# Altium schematic symbol library APSS Flight Parts.SchLib: 102 symbols
Pins are listed as number, name and electrical type; pins without a type are passive.

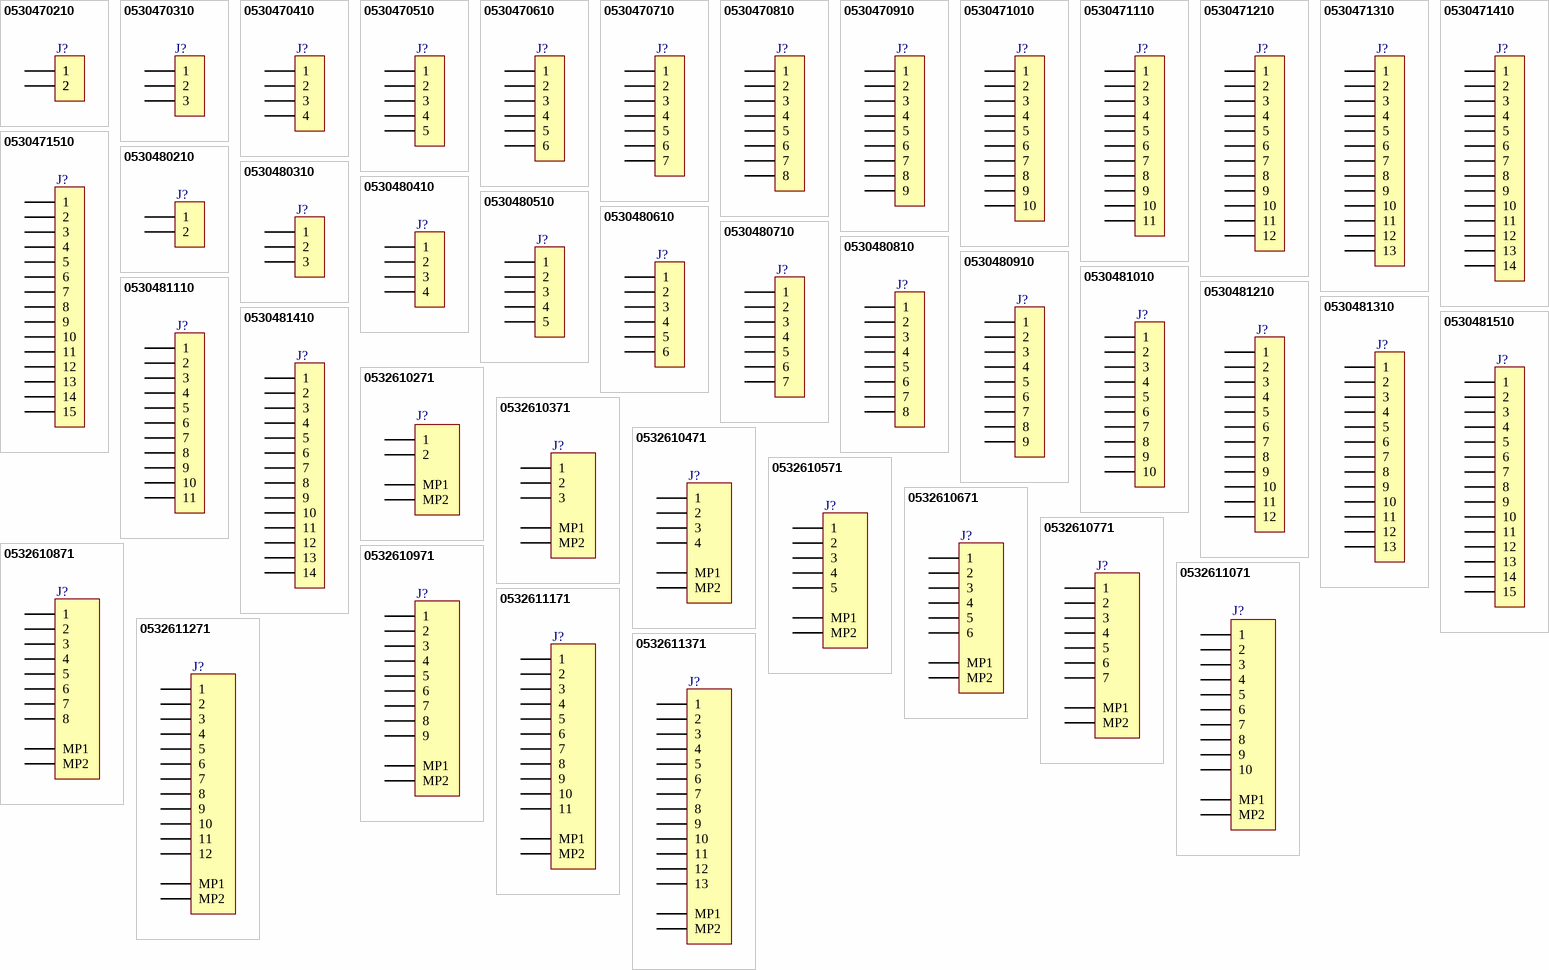
[diagram p0: symbols 0530470210 to 0532611371]

## 0530470210
designator J?  (value not drawn)
Header - Picoblade 02-pin, TH, STR; APSS Standard Part: APSS Standard; Pitch: 1.25mm; Mounting Type: Through-hole; Orientation: Straight; MF Part No.: 0530470210; Pins: 2; Supplier 1: Digikey; Supplier 1 Part No.: WM1731-ND
footprint MOLEX_0530470210
pins: 1, 1, 2, 2

## 0530470310
designator J?  (value not drawn)
Header - Picoblade 03-pin, TH, STR; APSS Standard Part: APSS Standard; Pitch: 1.25mm; Mounting Type: Through-hole; Orientation: Straight; MF Part No.: 0530470310; Pins: 3; Supplier 1: Digikey; Supplier 1 Part No.: WM1732-ND
footprint MOLEX_0530470310 (Header - Picoblade 03-pin, TH, STR, 4.2mm height)
pins: 1, 2, 3

## 0530470410
designator J?  (value not drawn)
Header - Picoblade 04-pin, TH, STR; APSS Standard Part: APSS Standard; Pitch: 1.25mm; Mounting Type: Through-hole; Orientation: Straight; MF Part No.: 0530470410; Pins: 4; Supplier 1: Digikey; Supplier 1 Part No.: WM1733-ND
footprint MOLEX_0530470410
pins: 1, 2, 3, 4

## 0530470510
designator J?  (value not drawn)
Header - Picoblade 05-pin, TH, STR; APSS Standard Part: APSS Standard; Pitch: 1.25mm; Mounting Type: Through-hole; Orientation: Straight; MF Part No.: 0530470510; Pins: 5; Supplier 1: Digikey; Supplier 1 Part No.: WM1734-ND
footprint MOLEX_0530470510 (Header - Picoblade 05-pin, TH, STR, 4.2mm height)
pins: 1, 2, 3, 4, 5

## 0530470610
designator J?  (value not drawn)
Header - Picoblade 06-pin, TH, STR; APSS Standard Part: APSS Standard; Pitch: 1.25mm; Mounting Type: Through-hole; Orientation: Straight; MF Part No.: 0530470610; Pins: 6; Supplier 1: Digikey; Supplier 1 Part No.: WM1735-ND
footprint MOLEX_0530470610
pins: 1, 2, 3, 4, 5, 6

## 0530470710
designator J?  (value not drawn)
Header - Picoblade 07-pin, TH, STR; APSS Standard Part: APSS Standard; Pitch: 1.25mm; Mounting Type: Through-hole; Orientation: Straight; MF Part No.: 0530470710; Pins: 7; Supplier 1: Digikey; Supplier 1 Part No.: WM1736-ND
footprint MOLEX_0530470710 (Header - Picoblade 07-pin, TH, STR, 4.2mm height)
pins: 1, 2, 3, 4, 5, 6, 7

## 0530470810
designator J?  (value not drawn)
Header - Picoblade 08-pin, TH, STR; APSS Standard Part: APSS Standard; Pitch: 1.25mm; Mounting Type: Through-hole; Orientation: Straight; MF Part No.: 0530470810; Pins: 8; Supplier 1: Digikey; Supplier 1 Part No.: WM1737-ND
footprint MOLEX_0530470810
pins: 1, 2, 3, 4, 5, 6, 7, 8

## 0530470910
designator J?  (value not drawn)
Header - Picoblade 09-pin, TH, STR; APSS Standard Part: APSS Standard; Pitch: 1.25mm; Mounting Type: Through-hole; Orientation: Straight; MF Part No.: 0530470910; Pins: 9; Supplier 1: Digikey; Supplier 1 Part No.: WM1738-ND
footprint MOLEX_0530470910 (Header - Picoblade 09-pin, TH, STR, 4.2mm height)
pins: 1, 2, 3, 4, 5, 6, 7, 8, 9

## 0530471010
designator J?  (value not drawn)
Header - Picoblade 10-pin, TH, STR; APSS Standard Part: APSS Standard; Pitch: 1.25mm; Mounting Type: Through-hole; Orientation: Straight; MF Part No.: 0530471010; Pins: 10; Supplier 1: Digikey; Supplier 1 Part No.: WM1739-ND
footprint MOLEX_0530471010
pins: 1, 2, 3, 4, 5, 6, 7, 8, 9, 10

## 0530471110
designator J?  (value not drawn)
Header - Picoblade 11-pin, TH, STR; APSS Standard Part: APSS Standard; Pitch: 1.25mm; Mounting Type: Through-hole; Orientation: Straight; MF Part No.: 0530471110; Pins: 11; Supplier 1: Digikey; Supplier 1 Part No.: WM1740-ND
footprint MOLEX_0530471110 (Header - Picoblade 11-pin, TH, STR, 4.2mm height)
pins: 1, 2, 3, 4, 5, 6, 7, 8, 9, 10, 11

## 0530471210
designator J?  (value not drawn)
Header - Picoblade 12-pin, TH, STR; APSS Standard Part: APSS Standard; Pitch: 1.25mm; Mounting Type: Through-hole; Orientation: Straight; MF Part No.: 0530471210; Pins: 12; Supplier 1: Digikey; Supplier 1 Part No.: WM1741-ND
footprint MOLEX_0530471210
pins: 1, 2, 3, 4, 5, 6, 7, 8, 9, 10, 11, 12

## 0530471310
designator J?  (value not drawn)
Header - Picoblade 13-pin, TH, STR; APSS Standard Part: APSS Standard; Pitch: 1.25mm; Mounting Type: Through-hole; Orientation: Straight; MF Part No.: 0530471310; Pins: 13; Supplier 1: Digikey; Supplier 1 Part No.: 23-0530471310-ND
footprint MOLEX_0530471310 (Header - Picoblade 13-pin, TH, STR, 4.2mm height)
pins: 1, 2, 3, 4, 5, 6, 7, 8, 9, 10, 11, 12, 13

## 0530471410
designator J?  (value not drawn)
Header - Picoblade 14-pin, TH, STR; APSS Standard Part: APSS Standard; Pitch: 1.25mm; Mounting Type: Through-hole; Orientation: Straight; MF Part No.: 0530471410; Pins: 14; Supplier 1: Digikey; Supplier 1 Part No.: WM17004-ND
footprint MOLEX_0530471410
pins: 1, 2, 3, 4, 5, 6, 7, 8, 9, 10, 11, 12, 13, 14

## 0530471510
designator J?  (value not drawn)
Header - Picoblade 15-pin, TH, STR; APSS Standard Part: APSS Standard; Pitch: 1.25mm; Mounting Type: Through-hole; Orientation: Straight; Supplier 1: Digikey; Supplier 1 Part No.: WM17005-ND; MF Part No.: 0530471510; Pins: 15
footprint MOLEX_0530471510 (Header - Picoblade 15-pin, TH, STR, 4.2mm height)
pins: 1, 2, 3, 4, 5, 6, 7, 8, 9, 10, 11, 12, 13, 14, 15

## 0530480210
designator J?  (value not drawn)
Header - Picoblade 02-pin, TH, RA; APSS Standard Part: APSS Standard; Pitch: 1.25mm; Mounting Type: Through-hole; Orientation: Right Angle; MF Part No.: 0530480210; Pins: 2; Supplier 1: Digikey; Supplier 1 Part No.: WM1742-ND
footprint MOLEX_0530480210
pins: 1, 2

## 0530480310
designator J?  (value not drawn)
Header - Picoblade 03-pin, TH, RA; APSS Standard Part: APSS Standard; Pitch: 1.25mm; Mounting Type: Through-hole; Orientation: Right Angle; MF Part No.: 0530480310; Pins: 3; Supplier 1: Digikey; Supplier 1 Part No.: WM1743-ND
footprint MOLEX_0530480310 (Header - Picoblade 03-pin, TH, RA, 4.2mm height)
pins: 1, 2, 3

## 0530480410
designator J?  (value not drawn)
Header - Picoblade 04-pin, TH, RA; APSS Standard Part: APSS Standard; Pitch: 1.25mm; Mounting Type: Through-hole; Orientation: Right Angle; MF Part No.: 0530480410; Pins: 4; Supplier 1: Digikey; Supplier 1 Part No.: WM1744-ND
footprint MOLEX_0530480410
pins: 1, 2, 3, 4

## 0530480510
designator J?  (value not drawn)
Header - Picoblade 05-pin, TH, RA; APSS Standard Part: APSS Standard; Pitch: 1.25mm; Mounting Type: Through-hole; Orientation: Right Angle; MF Part No.: 0530480510; Pins: 5; Supplier 1: Digikey; Supplier 1 Part No.: WM1745-ND
footprint MOLEX_0530480510 (Header - Picoblade 05-pin, TH, RA, 4.2mm height)
pins: 1, 2, 3, 4, 5

## 0530480610
designator J?  (value not drawn)
Header - Picoblade 06-pin, TH, RA; APSS Standard Part: APSS Standard; Pitch: 1.25mm; Mounting Type: Through-hole; Orientation: Right Angle; MF Part No.: 0530480610; Pins: 6; Supplier 1: Digikey; Supplier 1 Part No.: WM1746-ND
footprint MOLEX_0530480610
pins: 1, 2, 3, 4, 5, 6

## 0530480710
designator J?  (value not drawn)
Header - Picoblade 07-pin, TH, RA; APSS Standard Part: APSS Standard; Pitch: 1.25mm; Mounting Type: Through-hole; Orientation: Right Angle; MF Part No.: 0530480710; Pins: 7; Supplier 1: Digikey; Supplier 1 Part No.: WM1747-ND
footprint MOLEX_0530480710 (Header - Picoblade 07-pin, TH, RA, 4.2mm height)
pins: 1, 2, 3, 4, 5, 6, 7

## 0530480810
designator J?  (value not drawn)
Header - Picoblade 08-pin, TH, RA; APSS Standard Part: APSS Standard; Pitch: 1.25mm; Mounting Type: Through-hole; Orientation: Right Angle; MF Part No.: 0530480810; Pins: 8; Supplier 1: Digikey; Supplier 1 Part No.: WM1748-ND
footprint MOLEX_0530480810
pins: 1, 2, 3, 4, 5, 6, 7, 8

## 0530480910
designator J?  (value not drawn)
Header - Picoblade 09-pin, TH, RA; APSS Standard Part: APSS Standard; Pitch: 1.25mm; Mounting Type: Through-hole; Orientation: Right Angle; MF Part No.: 0530480910; Pins: 9; Supplier 1: Digikey; Supplier 1 Part No.: WM1749-ND
footprint MOLEX_0530480910 (Header - Picoblade 09-pin, TH, RA, 4.2mm height)
pins: 1, 2, 3, 4, 5, 6, 7, 8, 9

## 0530481010
designator J?  (value not drawn)
Header - Picoblade 10-pin, TH, RA; APSS Standard Part: APSS Standard; Pitch: 1.25mm; Mounting Type: Through-hole; Orientation: Right Angle; MF Part No.: 0530481010; Pins: 10; Supplier 1: Digikey; Supplier 1 Part No.: WM1750-ND
footprint MOLEX_0530481010
pins: 1, 2, 3, 4, 5, 6, 7, 8, 9, 10

## 0530481110
designator J?  (value not drawn)
Header - Picoblade 11-pin, TH, RA; APSS Standard Part: APSS Standard; Pitch: 1.25mm; Mounting Type: Through-hole; Orientation: Right Angle; MF Part No.: 0530481110; Pins: 11; Supplier 1: Digikey; Supplier 1 Part No.: WM1751-ND
footprint MOLEX_0530481110 (Header - Picoblade 11-pin, TH, RA, 4.2mm height)
pins: 1, 2, 3, 4, 5, 6, 7, 8, 9, 10, 11

## 0530481210
designator J?  (value not drawn)
Header - Picoblade 12-pin, TH, RA; APSS Standard Part: APSS Standard; Pitch: 1.25mm; Mounting Type: Through-hole; Orientation: Right Angle; MF Part No.: 0530481210; Pins: 12; Supplier 1: Digikey; Supplier 1 Part No.: WM1752-ND
footprint MOLEX_0530481210
pins: 1, 2, 3, 4, 5, 6, 7, 8, 9, 10, 11, 12

## 0530481310
designator J?  (value not drawn)
Header - Picoblade 13-pin, TH, RA; APSS Standard Part: APSS Standard; Pitch: 1.25mm; Mounting Type: Through-hole; Orientation: Right Angle; MF Part No.: 0530481310; Pins: 13; Supplier 1: Digikey; Supplier 1 Part No.: 23-0530481310-ND
footprint MOLEX_0530481310 (Header - Picoblade 13-pin, TH, RA, 4.2mm height)
pins: 1, 2, 3, 4, 5, 6, 7, 8, 9, 10, 11, 12, 13

## 0530481410
designator J?  (value not drawn)
Header - Picoblade 14-pin, TH, RA; APSS Standard Part: APSS Standard; Pitch: 1.25mm; Mounting Type: Through-hole; Orientation: Right Angle; MF Part No.: 0530481410; Pins: 14; Supplier 1: Digikey; Supplier 1 Part No.: WM17007-ND
footprint MOLEX_0530481410
pins: 1, 2, 3, 4, 5, 6, 7, 8, 9, 10, 11, 12, 13, 14

## 0530481510
designator J?  (value not drawn)
Header - Picoblade 15-pin, TH, RA; APSS Standard Part: APSS Standard; Pitch: 1.25mm; Mounting Type: Through-hole; Orientation: Right Angle; MF Part No.: 0530481510; Pins: 15; Supplier 1: Digikey; Supplier 1 Part No.: WM17008-ND
footprint MOLEX_0530481510 (Header - Picoblade 15-pin, TH, RA, 4.2mm height)
pins: 1, 2, 3, 4, 5, 6, 7, 8, 9, 10, 11, 12, 13, 14, 15

## 0532610271
designator J?  (value not drawn)
Header - Picoblade 02-pin, SMT, RA; APSS Standard Part: APSS Standard; Pitch: 1.25mm; Mounting Type: Surface Mount; Orientation: Right Angle; MF Part No.: 0532610271; Pins: 2; Supplier 1: Digikey; Supplier 1 Part No.: WM7620CT-ND
footprint MOLEX_0532610271 (Header - Picoblade 02-pin, SMT, RA, 3.4mm height)
pins: 1, 2, MP1, MP2

## 0532610371
designator J?  (value not drawn)
Header - Picoblade 03-pin, SMT, RA; APSS Standard Part: APSS Standard; Pitch: 1.25mm; Mounting Type: Surface Mount; Orientation: Right Angle; MF Part No.: 0532610371; Pins: 3; Supplier 1: Digikey; Supplier 1 Part No.: WM7621CT-ND
footprint MOLEX_0532610371 (Header - Picoblade 03-pin, SMT, RA, 3.4mm height)
pins: 1, 2, 3, MP1, MP2

## 0532610471
designator J?  (value not drawn)
Header - Picoblade 04-pin, SMT, RA; APSS Standard Part: APSS Standard; Pitch: 1.25mm; Mounting Type: Surface Mount; Orientation: Right Angle; MF Part No.: 0532610471; Pins: 4; Supplier 1: Digikey; Supplier 1 Part No.: WM7622CT-ND
footprint MOLEX_0532610471 (Header - Picoblade 04-pin, SMT, RA, 3.4mm height)
pins: 1, 2, 3, 4, MP1, MP2

## 0532610571
designator J?  (value not drawn)
Header - Picoblade 05-pin, SMT, RA; APSS Standard Part: APSS Standard; Pitch: 1.25mm; Mounting Type: Surface Mount; Orientation: Right Angle; MF Part No.: 0532610571; Pins: 5; Supplier 1: Digikey; Supplier 1 Part No.: WM7623CT-ND
footprint MOLEX_0532610571 (Header - Picoblade 05-pin, SMT, RA, 3.4mm height)
pins: 1, 2, 3, 4, 5, MP1, MP2

## 0532610671
designator J?  (value not drawn)
Header - Picoblade 06-pin, SMT, RA; APSS Standard Part: APSS Standard; Pitch: 1.25mm; Mounting Type: Surface Mount; Orientation: Right Angle; MF Part No.: 0532610671; Pins: 6; Supplier 1: Digikey; Supplier 1 Part No.: WM7624CT-ND
footprint MOLEX_0532610671 (Header - Picoblade 06-pin, SMT, RA, 3.4mm height)
pins: 1, 2, 3, 4, 5, 6, MP1, MP2

## 0532610771
designator J?  (value not drawn)
Header - Picoblade 07-pin, SMT, RA; APSS Standard Part: APSS Standard; Pitch: 1.25mm; Mounting Type: Surface Mount; Orientation: Right Angle; MF Part No.: 0532610771; Pins: 7; Supplier 1: Digikey; Supplier 1 Part No.: WM7625CT-ND
footprint MOLEX_0532610771 (Header - Picoblade 07-pin, SMT, RA, 3.4mm height)
pins: 1, 2, 3, 4, 5, 6, 7, MP1, MP2

## 0532610871
designator J?  (value not drawn)
Header - Picoblade 08-pin, SMT, RA; APSS Standard Part: APSS Standard; Pitch: 1.25mm; Mounting Type: Surface Mount; Orientation: Right Angle; MF Part No.: 0532610871; Pins: 8; Supplier 1: Digikey; Supplier 1 Part No.: WM7626CT-ND
footprint MOLEX_0532610871 (Header - Picoblade 08-pin, SMT, RA, 3.4mm height)
pins: 1, 2, 3, 4, 5, 6, 7, 8, MP1, MP2

## 0532610971
designator J?  (value not drawn)
Header - Picoblade 09-pin, SMT, RA; APSS Standard Part: APSS Standard; Pitch: 1.25mm; Mounting Type: Surface Mount; Orientation: Right Angle; MF Part No.: 0532610971; Pins: 9; Supplier 1: Digikey; Supplier 1 Part No.: WM7627CT-ND
footprint MOLEX_0532610971 (Header - Picoblade 09-pin, SMT, RA, 3.4mm height)
pins: 1, 2, 3, 4, 5, 6, 7, 8, 9, MP1, MP2

## 0532611071
designator J?  (value not drawn)
Header - Picoblade 10-pin, SMT, RA; APSS Standard Part: APSS Standard; Pitch: 1.25mm; Mounting Type: Surface Mount; Orientation: Right Angle; MF Part No.: 0532611071; Pins: 10; Supplier 1: Digikey; Supplier 1 Part No.: WM7628CT-ND
footprint MOLEX_0532611071 (Header - Picoblade 10-pin, SMT, RA, 3.4mm height)
pins: 1, 2, 3, 4, 5, 6, 7, 8, 9, 10, MP1, MP2

## 0532611171
designator J?  (value not drawn)
Header - Picoblade 11-pin, SMT, RA; APSS Standard Part: APSS Standard; Pitch: 1.25mm; Mounting Type: Surface Mount; Orientation: Right Angle; MF Part No.: 0532611171; Pins: 11; Supplier 1: Digikey; Supplier 1 Part No.: WM7629CT-ND
footprint MOLEX_0532611171 (Header - Picoblade 11-pin, SMT, RA, 3.4mm height)
pins: 1, 2, 3, 4, 5, 6, 7, 8, 9, 10, 11, MP1, MP2

## 0532611271
designator J?  (value not drawn)
Header - Picoblade 12-pin, SMT, RA; APSS Standard Part: APSS Standard; Pitch: 1.25mm; Mounting Type: Surface Mount; Orientation: Right Angle; MF Part No.: 0532611271; Pins: 12; Supplier 1: Digikey; Supplier 1 Part No.: WM7630CT-ND
footprint MOLEX_0532611271 (Header - Picoblade 12-pin, SMT, RA, 3.4mm height)
pins: 1, 2, 3, 4, 5, 6, 7, 8, 9, 10, 11, 12, MP1, MP2

## 0532611371
designator J?  (value not drawn)
Header - Picoblade 13-pin, SMT, RA; APSS Standard Part: APSS Standard; Pitch: 1.25mm; Mounting Type: Surface Mount; Orientation: Right Angle; MF Part No.: 0532611371; Pins: 13; Supplier 1: Digikey; Supplier 1 Part No.: WM14352CT-ND
footprint MOLEX_0532611371 (Header - Picoblade 13-pin, SMT, RA, 3.4mm height)
pins: 1, 2, 3, 4, 5, 6, 7, 8, 9, 10, 11, 12, 13, MP1, MP2

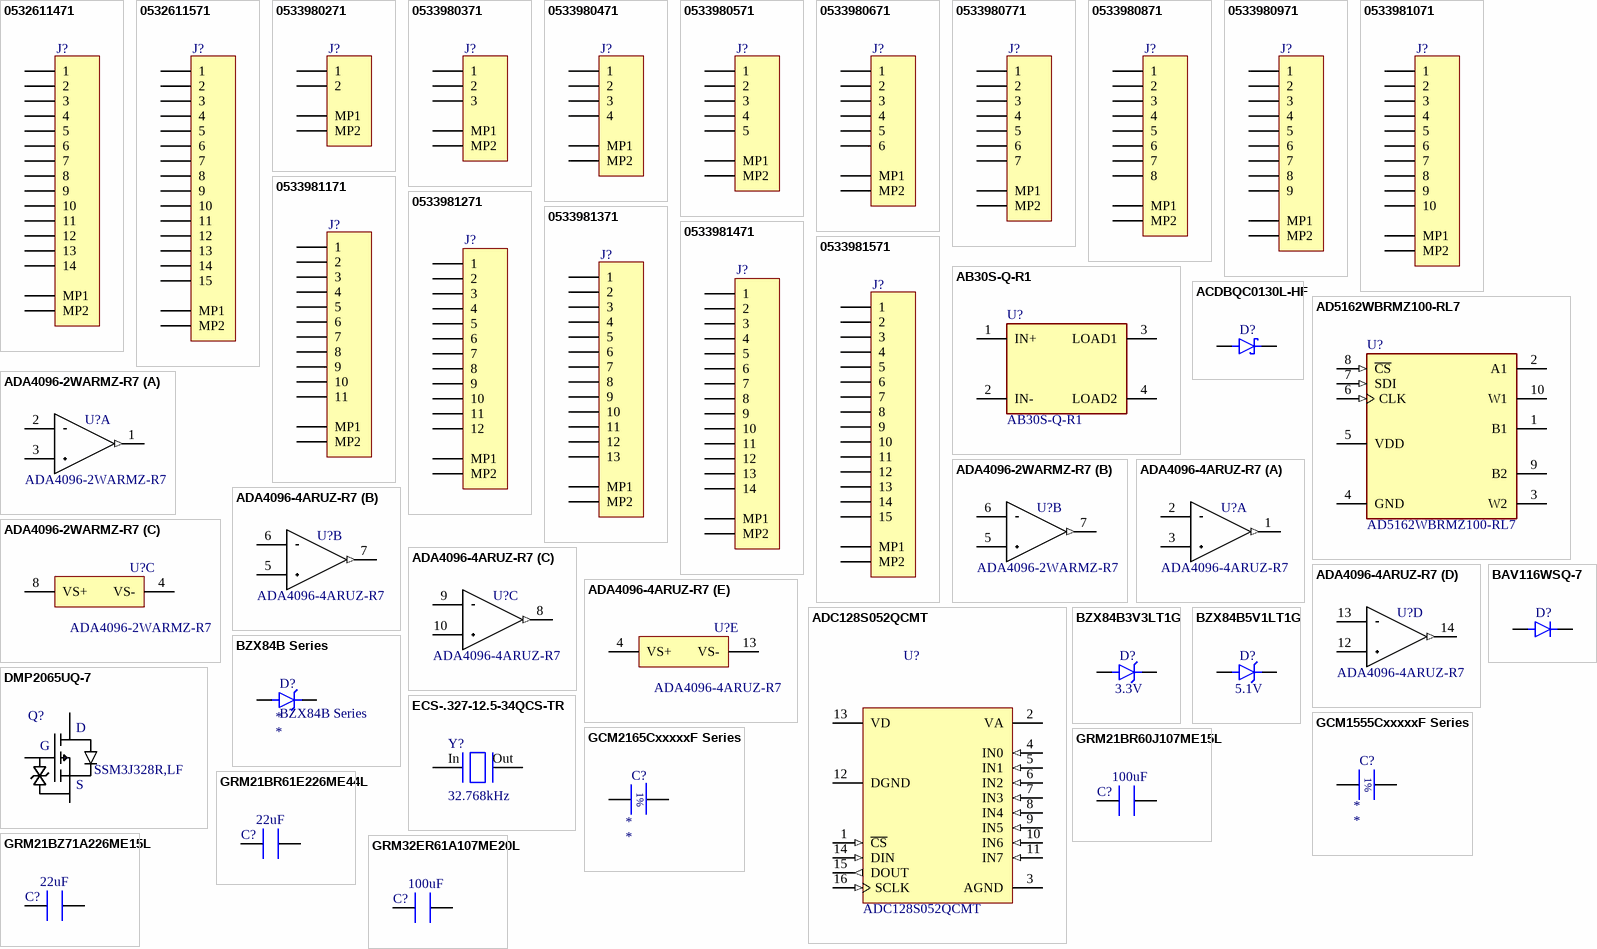
[diagram p1: symbols 0532611471 to GRM32ER61A107ME20L]

## 0532611471
designator J?  (value not drawn)
Header - Picoblade 14-pin, SMT, RA; APSS Standard Part: APSS Standard; Pitch: 1.25mm; Mounting Type: Surface Mount; Orientation: Right Angle; MF Part No.: 0532611471; Pins: 14; Supplier 1: Digikey; Supplier 1 Part No.: WM7631CT-ND
footprint MOLEX_0532611471 (Header - Picoblade 14-pin, SMT, RA, 3.4mm height)
pins: 1, 2, 3, 4, 5, 6, 7, 8, 9, 10, 11, 12, 13, 14, MP1, MP2

## 0532611571
designator J?  (value not drawn)
Header - Picoblade 15-pin, SMT, RA; APSS Standard Part: APSS Standard; Pitch: 1.25mm; Mounting Type: Surface Mount; Orientation: Right Angle; MF Part No.: 0532611571; Pins: 15; Supplier 1: Digikey; Supplier 1 Part No.: WM7632CT-ND
footprint MOLEX_0532611571 (Header - Picoblade 15-pin, SMT, RA, 3.4mm height)
pins: 1, 2, 3, 4, 5, 6, 7, 8, 9, 10, 11, 12, 13, 14, 15, MP1, MP2

## 0533980271
designator J?  (value not drawn)
Header - Picoblade 02-pin, SMT, STR; APSS Standard Part: APSS Standard; Pitch: 1.25mm; Mounting Type: Surface Mount; Orientation: Straight; MF Part No.: 0533980271; Pins: 2; Supplier 1: Digikey; Supplier 1 Part No.: WM7606CT-ND
footprint MOLEX_0533980271 (Header - Picoblade 02-pin, SMT, STR, 4.7mm height)
pins: 1, 2, MP1, MP2

## 0533980371
designator J?  (value not drawn)
Header - Picoblade 03-pin, SMT, STR; APSS Standard Part: APSS Standard; Pitch: 1.25mm; Mounting Type: Surface Mount; Orientation: Straight; MF Part No.: 0533980371; Pins: 3; Supplier 1: Digikey; Supplier 1 Part No.: WM7607CT-ND
footprint MOLEX_0533980371 (Header - Picoblade 03-pin, SMT, STR, 4.7mm height)
pins: 1, 2, 3, MP1, MP2

## 0533980471
designator J?  (value not drawn)
Header - Picoblade 04-pin, SMT, STR; APSS Standard Part: APSS Standard; Pitch: 1.25mm; Mounting Type: Surface Mount; Orientation: Straight; MF Part No.: 0533980471; Pins: 4; Supplier 1: Digikey; Supplier 1 Part No.: WM7608CT-ND
footprint MOLEX_0533980471 (Header - Picoblade 04-pin, SMT, STR, 4.7mm height)
pins: 1, 2, 3, 4, MP1, MP2

## 0533980571
designator J?  (value not drawn)
Header - Picoblade 05-pin, SMT, STR; APSS Standard Part: APSS Standard; Pitch: 1.25mm; Mounting Type: Surface Mount; Orientation: Straight; MF Part No.: 0533980571; Pins: 5; Supplier 1: Digikey; Supplier 1 Part No.: WM7609CT-ND
footprint MOLEX_0533980571 (Header - Picoblade 05-pin, SMT, STR, 4.7mm height)
pins: 1, 2, 3, 4, 5, MP1, MP2

## 0533980671
designator J?  (value not drawn)
Header - Picoblade 06-pin, SMT, STR; APSS Standard Part: APSS Standard; Pitch: 1.25mm; Mounting Type: Surface Mount; Orientation: Straight; MF Part No.: 0533980671; Pins: 6; Supplier 1: Digikey; Supplier 1 Part No.: WM7610CT-ND
footprint MOLEX_0533980671 (Header - Picoblade 06-pin, SMT, STR, 4.7mm height)
pins: 1, 2, 3, 4, 5, 6, MP1, MP2

## 0533980771
designator J?  (value not drawn)
Header - Picoblade 07-pin, SMT, STR; APSS Standard Part: APSS Standard; Pitch: 1.25mm; Mounting Type: Surface Mount; Orientation: Straight; MF Part No.: 0533980771; Pins: 7; Supplier 1: Digikey; Supplier 1 Part No.: WM7611CT-ND
footprint MOLEX_0533980771 (Header - Picoblade 07-pin, SMT, STR, 4.7mm height)
pins: 1, 2, 3, 4, 5, 6, 7, MP1, MP2

## 0533980871
designator J?  (value not drawn)
Header - Picoblade 08-pin, SMT, STR; APSS Standard Part: APSS Standard; Pitch: 1.25mm; Mounting Type: Surface Mount; Orientation: Straight; MF Part No.: 0533980871; Pins: 8; Supplier 1: Digikey; Supplier 1 Part No.: WM7612CT-ND
footprint MOLEX_0533980871 (Header - Picoblade 08-pin, SMT, STR, 4.7mm height)
pins: 1, 2, 3, 4, 5, 6, 7, 8, MP1, MP2

## 0533980971
designator J?  (value not drawn)
Header - Picoblade 09-pin, SMT, STR; APSS Standard Part: APSS Standard; Pitch: 1.25mm; Mounting Type: Surface Mount; Orientation: Straight; MF Part No.: 0533980971; Pins: 9; Supplier 1: Digikey; Supplier 1 Part No.: WM7613CT-ND
footprint MOLEX_0533980971 (Header - Picoblade 09-pin, SMT, STR, 4.7mm height)
pins: 1, 2, 3, 4, 5, 6, 7, 8, 9, MP1, MP2

## 0533981071
designator J?  (value not drawn)
Header - Picoblade 10-pin, SMT, STR; APSS Standard Part: APSS Standard; Pitch: 1.25mm; Mounting Type: Surface Mount; Orientation: Straight; MF Part No.: 0533981071; Pins: 10; Supplier 1: Digikey; Supplier 1 Part No.: WM7614CT-ND
footprint MOLEX_0533981071 (Header - Picoblade 10-pin, SMT, STR, 4.7mm height)
pins: 1, 2, 3, 4, 5, 6, 7, 8, 9, 10, MP1, MP2

## 0533981171
designator J?  (value not drawn)
Header - Picoblade 11-pin, SMT, STR; APSS Standard Part: APSS Standard; Pitch: 1.25mm; Mounting Type: Surface Mount; Orientation: Straight; MF Part No.: 0533981171; Pins: 11; Supplier 1: Digikey; Supplier 1 Part No.: WM7615CT-ND
footprint MOLEX_0533981171 (Header - Picoblade 11-pin, SMT, STR, 4.7mm height)
pins: 1, 2, 3, 4, 5, 6, 7, 8, 9, 10, 11, MP1, MP2

## 0533981271
designator J?  (value not drawn)
Header - Picoblade 12-pin, SMT, STR; APSS Standard Part: APSS Standard; Pitch: 1.25mm; Mounting Type: Surface Mount; Orientation: Straight; MF Part No.: 0533981271; Pins: 12; Supplier 1: Digikey; Supplier 1 Part No.: WM7616CT-ND
footprint MOLEX_0533981271 (Header - Picoblade 12-pin, SMT, STR, 4.7mm height)
pins: 1, 2, 3, 4, 5, 6, 7, 8, 9, 10, 11, 12, MP1, MP2

## 0533981371
designator J?  (value not drawn)
Header - Picoblade 13-pin, SMT, STR; APSS Standard Part: APSS Standard; Pitch: 1.25mm; Mounting Type: Surface Mount; Orientation: Straight; MF Part No.: 0533981371; Pins: 13; Supplier 1: Digikey; Supplier 1 Part No.: WM7617CT-ND
footprint MOLEX_0533981371 (Header - Picoblade 13-pin, SMT, STR, 4.7mm height)
pins: 1, 2, 3, 4, 5, 6, 7, 8, 9, 10, 11, 12, 13, MP1, MP2

## 0533981471
designator J?  (value not drawn)
Header - Picoblade 14-pin, SMT, STR; APSS Standard Part: APSS Standard; Pitch: 1.25mm; Mounting Type: Surface Mount; Orientation: Straight; MF Part No.: 0533981471; Pins: 14; Supplier 1: Digikey; Supplier 1 Part No.: WM7618CT-ND
footprint MOLEX_0533981471 (Header - Picoblade 14-pin, SMT, STR, 4.7mm height)
pins: 1, 2, 3, 4, 5, 6, 7, 8, 9, 10, 11, 12, 13, 14, MP1, MP2

## 0533981571
designator J?  (value not drawn)
Header - Picoblade 15-pin, SMT, STR; APSS Standard Part: APSS Standard; Pitch: 1.25mm; Mounting Type: Surface Mount; Orientation: Straight; MF Part No.: 0533981571; Pins: 15; Supplier 1: Digikey; Supplier 1 Part No.: WM7619CT-ND
footprint MOLEX_0533981571 (Header - Picoblade 15-pin, SMT, STR, 4.7mm height)
pins: 1, 2, 3, 4, 5, 6, 7, 8, 9, 10, 11, 12, 13, 14, 15, MP1, MP2

## AB30S-Q-R1
designator U?
IC - Relay SSR, 100mA load, SPST-NO, 1500V Isolation, 400V Load; Temp Range: -40°C ~ 105°C; Package: SOP-4; Rated Voltage: 400V; Supplier 1: Digikey; Supplier 1 Part No.: 3008-AB30S-Q-R1CT-ND; MF Part No.: AB30S-Q-R1
footprint SOP-4_4.4mmBody_2mm (2.54mm pitch, 4.4mm wide, 2mm tall)
pins: 1 IN+, 2 IN-, 3 LOAD1, 4 LOAD2

## ACDBQC0130L-HF
designator D?  (value not drawn)
Diode - Low Forward Voltage, Schottky, 300 mV @ 10 mA, 10 µA Reverse @ 10 V, 0402C; APSS Standard Part: APSS Standard; Temp Range: -40°C ~ 125°C; Rated Voltage: 35V Reverse; MF Part No.: ACDBQC0130L-HF; Package: 0402C; Supplier 1: Digikey; Supplier 1 Part No.: 641-2041-1-ND
footprint SOD923F-0.55mm-N (SOD-923F, nominal pads, 0.55mm high)
pins: A, C

## AD5162WBRMZ100-RL7
designator U?
IC - Digipot, 100kOhm, 2 Circuit, 256 Taps, SPI, MSOP-10-0.5mm; APSS Standard Part: APSS Standard; Temp Range: -40°C ~ 125°C; Rated Voltage: 5.5V; Package: MSOP-10 0.5mm; MF Part No.: AD5162WBRMZ100-RL7; Supplier 1: Digikey; Supplier 1 Part No.: AD5162WBRMZ100-RL7CT-ND
footprint MSOP-10N-3mmBody-1.1mm (MSOP-10, 3mm body width, 1.1mm high, nominal pads)
pins: 1 B1, 2 A1, 3 W2, 4 GND, 5 VDD (power), 6 CLK (in), 7 SDI (in), 8 ~{CS} (in), 9 B2, 10 W1

## ADA4096-2WARMZ-R7
designator U?
IC - Opamp, Low Power, 2-Channel, 786kHz GBWP, RRIO, 3V to 30V, -40 to 125, MSOP-8; Temp Range: -40°C ~ 125°C; Package: MSOP-8 0.65mm; MF Part No.: ADA4096-2WARMZ-R7; Rated Voltage: 30V; Supplier 1: Digikey; Supplier 1 Part No.: 505-ADA4096-2WARMZ-R7CT-ND
footprint SOIC-8N-3.9mmBody-1.75mm (8-SOIC, 8 pins, 3.9mm body width, nominal pads, 1.75mm high)
part A pins: 1 OUT1 (out), 2 IN1-, 3 IN1+
part B pins: 5 IN2+, 6 IN2-, 7 OUT1 (out)
part C pins: 4 VS- (power), 8 VS+ (power)

## ADA4096-4ARUZ-R7
designator U?
IC - Opamp, Low Power, 4-Channel, 786kHz GBWP, RRIO, 3V to 30V, -40 to 125, MSOP-8; Temp Range: -40°C ~ 125°C; Package: TSSOP-14; MF Part No.: ADA4096-4ARUZ-R7; Rated Voltage: 30V; Supplier 1: Digikey; Supplier 1 Part No.: ADA4096-4ARUZ-R7
footprint TSSOP-14N_4.4mmBody-1mm (TSSOP, 0.65mm pitch, 4.4mm body, 1mm high, nominal pads)
part A pins: 1 OUT1 (out), 2 IN1-, 3 IN1+
part B pins: 5 IN2+, 6 IN2-, 7 OUT2 (out)
part C pins: 8 OUT3 (out), 9 IN3-, 10 IN3+
part D pins: 12 IN4+, 13 IN4-, 14 OUT4 (out)
part E pins: 4 VS+ (power), 13 VS- (power)

## ADC128S052QCMT
designator U?
IC - ADC, 8-Channel, 12-bit, SPI, Split digital/analog Vcc; MF Part No.: ADC128S052QCMT/NOPB-ND; APSS Standard Part: APSS Standard; Temp Range: -40°C ~ 105°C; Rated Voltage: 5.25V; Footprint: TSSOP-16; Package: TSSOP-16; Supplier 1: Digikey; Supplier 1 Part No.: ADC128S052CIMT/NOPB-ND
footprint TSSOP-16N_4.4mmBody-1.2mm (TSSOP, 4.4mm body, 1.2mm high, nominal pads)
pins: 1 ~{CS} (in), 2 VA (power), 3 AGND, 4 IN0 (in), 5 IN1 (in), 6 IN2 (in), 7 IN3 (in), 8 IN4 (in), 9 IN5 (in), 10 IN6 (in), 11 IN7 (in), 12 DGND, 13 VD (power), 14 DIN (in), 15 DOUT (out), 16 SCLK (in)

## BAV116WSQ-7
designator D?  (value not drawn)
Diode - Low Reverse Leakage, 1.25 Vf @ 150 mA, 5 nA Reverse @ 75 V, SOD-323; APSS Standard Part: APSS Standard; Temp Range: -55°C ~ 150°C; Rated Voltage: 85V Reverse; MF Part No.: BAV116WSQ-7; Package: SOD-323; Supplier 1: Digikey; Supplier 1 Part No.: BAV116WSQ-7DICT-ND
footprint SOD323-1.1mm-N (SOD-323, nominal pads, 1.1mm high)
pins: A, C

## BZX84B3V3LT1G
designator D?  value 3.3V  (hidden comment: BZX84B3V3LT1G)
Diode - Zener, BZX84B Tight Tolerance Series, 3V3, SOT-23-3; APSS Standard Part: APSS Standard; Temp Range: -65°C ~ 150°C; MF Part No.: BZX84B3V3LT1G; Package: SOT-23-3; Supplier 1: Digikey; Supplier 1 Part No.: BZX84B3V3LT1GOSCT-ND
footprint SOT23-3N-1.15mm (SOT23, 3-pin, 1.15mm high, nominal pads)
pins: 1, 3

## BZX84B5V1LT1G
designator D?  value 5.1V  (hidden comment: BZX84B5V1LT1G)
Diode - Zener, BZX84B Tight Tolerance Series, 5V1, SOT-23-3; APSS Standard Part: APSS Standard; Temp Range: -65°C ~ 150°C; MF Part No.: BZX84B5V1LT1G; Package: SOT-23-3; Supplier 1: Digikey; Supplier 1 Part No.: BZX84B5V1LT1GOSCT-ND
footprint SOT23-3N-1.15mm (SOT23, 3-pin, 1.15mm high, nominal pads)
pins: 1, 3

## BZX84B Series
designator D?
Diode - Zener Series, BZX84B Tight Tolerance Series, SOT-23-3; APSS Standard Part: APSS Standard; Temp Range: -65°C ~ 150°C; Package: SOT-23-3; Supplier 1: Digikey; MF Part No.: *; Value: *
footprint SOT23-3N-1.15mm (SOT23, 3-pin, 1.15mm high, nominal pads)
pins: 1, 3

## DMP2065UQ-7
designator Q?, comment SSM3J328R,LF
Transistor - MOSFET, P-Channel SSM3J328R,LF; APSS Standard Part: APSS Standard; Temp Range: 0°C ~ 150°C (TJ); Rated Voltage: 20 Vds; Power: 1W; MF Part No.: SSM3J328R,LF; Package: SOT23-3; Supplier 1: Digikey; Supplier 1 Part No.: SSM3J328RLFCT-ND
footprint SOT23-3N-1.15mm (SOT23, 3-pin, 1.15mm high, nominal pads)
pins: 1 G, 2 S, 3 D

## ECS-.327-12.5-34QCS-TR
designator Y?, comment 32.768kHz
Crystal - 32.7680kHz 2-SMD; MF Part No.: ECS-.327-12.5-34QCS-TR; APSS Standard Part: APSS Standard; Load Capacitance: 12.5pF; Freq Tolerance: ±10ppm; Temp range: -40°C ~ 125°C; Freq Stability: -; Supplier 1: Digikey; Supplier 1 Part No.: XC2159CT-ND; Value: 32.768kHz
footprint 2-SMD_3.2x1.5mm (2SMD, No Lead, 3.20mm x 1.50mm)
pins: 1, 2
text: In; Out

## GCM1555CxxxxxF Series
designator C?
Passive - Capacitor Series, 0402, C0G, 50V, ±1%, -55°C ~ 125°C, 0402 (1005 Metric); APSS Standard Part: APSS Standard; Capacitance at Rated Voltage: 100%; Value Range: 5pF ~ 1nF; E Series: E24; Tolerance: ±1%; Temperature Coefficient: C0G; Rated Voltage: 50V; Temp Range: -55°C ~ 125°C; Supplier 1: Digikey; Package: 0402; MF Part No.: *; Value: *
footprint CAPACITOR_0402_1005M_55N (Capacitor, 0402 (1005 metric), 0.55mm height, nominal pads)
pins: 1, 2
text: 1%

## GCM2165CxxxxxF Series
designator C?
Passive - Capacitor Series, 0805, C0G, 50V, ±1%, -55°C ~ 125°C, 0805 (2012 Metric); APSS Standard Part: APSS Standard; Capacitance at Rated Voltage: 100%; Value Range: 5pF ~ 22nF; E Series: E24; Tolerance: ±1%; Temperature Coefficient: C0G; Rated Voltage: 50V; Temp Range: -55°C ~ 125°C; Supplier 1: Digikey; Package: 0805; MF Part No.: *; Value: *
footprint CAPACITOR_0805_2012M-70N (Capacitor, 0805 (2012 metric), 0.7mm high, nominal pads,)
pins: 1, 2
text: 1%

## GRM21BR60J107ME15L
designator C?, comment 100uF
Passive - Capacitor, 0805, 100uF Max, X5R, 6.3V ±20%, -55°C ~ 85°C, 0805 (2012 Metric). 20uF @ 6.3V; MF Part No.: GRM21BR60J107ME15L; APSS Standard Part: APSS Standard; Tolerance: ±20%; Temperature Coefficient: X5R; Capacitance at Rated Voltage: 20%; Rated Voltage: 6.3V; Temp Range: -55°C ~ 85°C; Package: 0805; Supplier 1: Digikey; Supplier 1 Part No.: 490-GRM155R61E225KE11JCT-ND; Value: 100uF
footprint CAPACITOR_0805_2012M-70N (Capacitor, 0805 (2012 metric), 0.7mm high, nominal pads,)
pins: 1, 2

## GRM21BR61E226ME44L
designator C?, comment 22uF
Passive - Capacitor, 0805, 22uF Max, X5R, 25V, ±20%, -55°C ~ 85°C, 0805 (2012 Metric). 9.4uF @ 5V, 3.2uF @ 15V, 1.9uF @ 25V; MF Part No.: GRM21BR61E226ME44L; APSS Standard Part: APSS Standard; Capacitance at Rated Voltage: 10%; Tolerance: ±20%; Temperature Coefficient: X5R; Rated Voltage: 25V; Temp Range: -55°C ~ 85°C; Package: 0805; Supplier 1: Digikey; Supplier 1 Part No.: 490-GRM155R61J224KE01JCT-ND; Value: 22uF
footprint CAPACITOR_0805_2012M-70N (Capacitor, 0805 (2012 metric), 0.7mm high, nominal pads,)
pins: 1, 2

## GRM21BZ71A226ME15L
designator C?, comment 22uF
Passive - Capacitor, 0805, 22uF Max, X7R, 10V, ±20%, -55°C ~ 125°C, 0805 (2012 Metric). 9.43uF @ 5V, 4.7uF @10V; MF Part No.: GRM21BZ71A226ME15L; APSS Standard Part: APSS Standard; Tolerance: ±20%; Temperature Coefficient: X7R; Capacitance at Rated Voltage: 20%; Rated Voltage: 10V; Temp Range: -55°C ~ 125°C; Package: 0805; Supplier 1: Digikey; Supplier 1 Part No.: 490-GRM155Z71A225KE44DCT-ND; Value: 22uF
footprint CAPACITOR_0805_2012M-70N (Capacitor, 0805 (2012 metric), 0.7mm high, nominal pads,)
pins: 1, 2

## GRM32ER61A107ME20L
designator C?, comment 100uF
Passive - Capacitor, 1210, 100uF Max, X5R, 10V, ±20%, -55°C ~ 85°C, 1210 (3225 Metric). 37.9uF @ 5V, 18.8uF @ 10V; MF Part No.: GRM32ER61A107ME20L; APSS Standard Part: APSS Standard; Tolerance: 5%; Temperature Coefficient: X5R; Capacitance at Rated Voltage: 20%; Rated Voltage: 10V; Temp Range: -55°C ~ 85°C; Package: 1210; Supplier 1: Digikey; Supplier 1 Part No.: 490-GRM158R61A226ME15DCT-ND; Value: 100uF
footprint CAPACITOR_1210_3225M_270N (Capacitor, 1210 (3225 metric), 2.7mm high, nominal pads)
pins: 1, 2

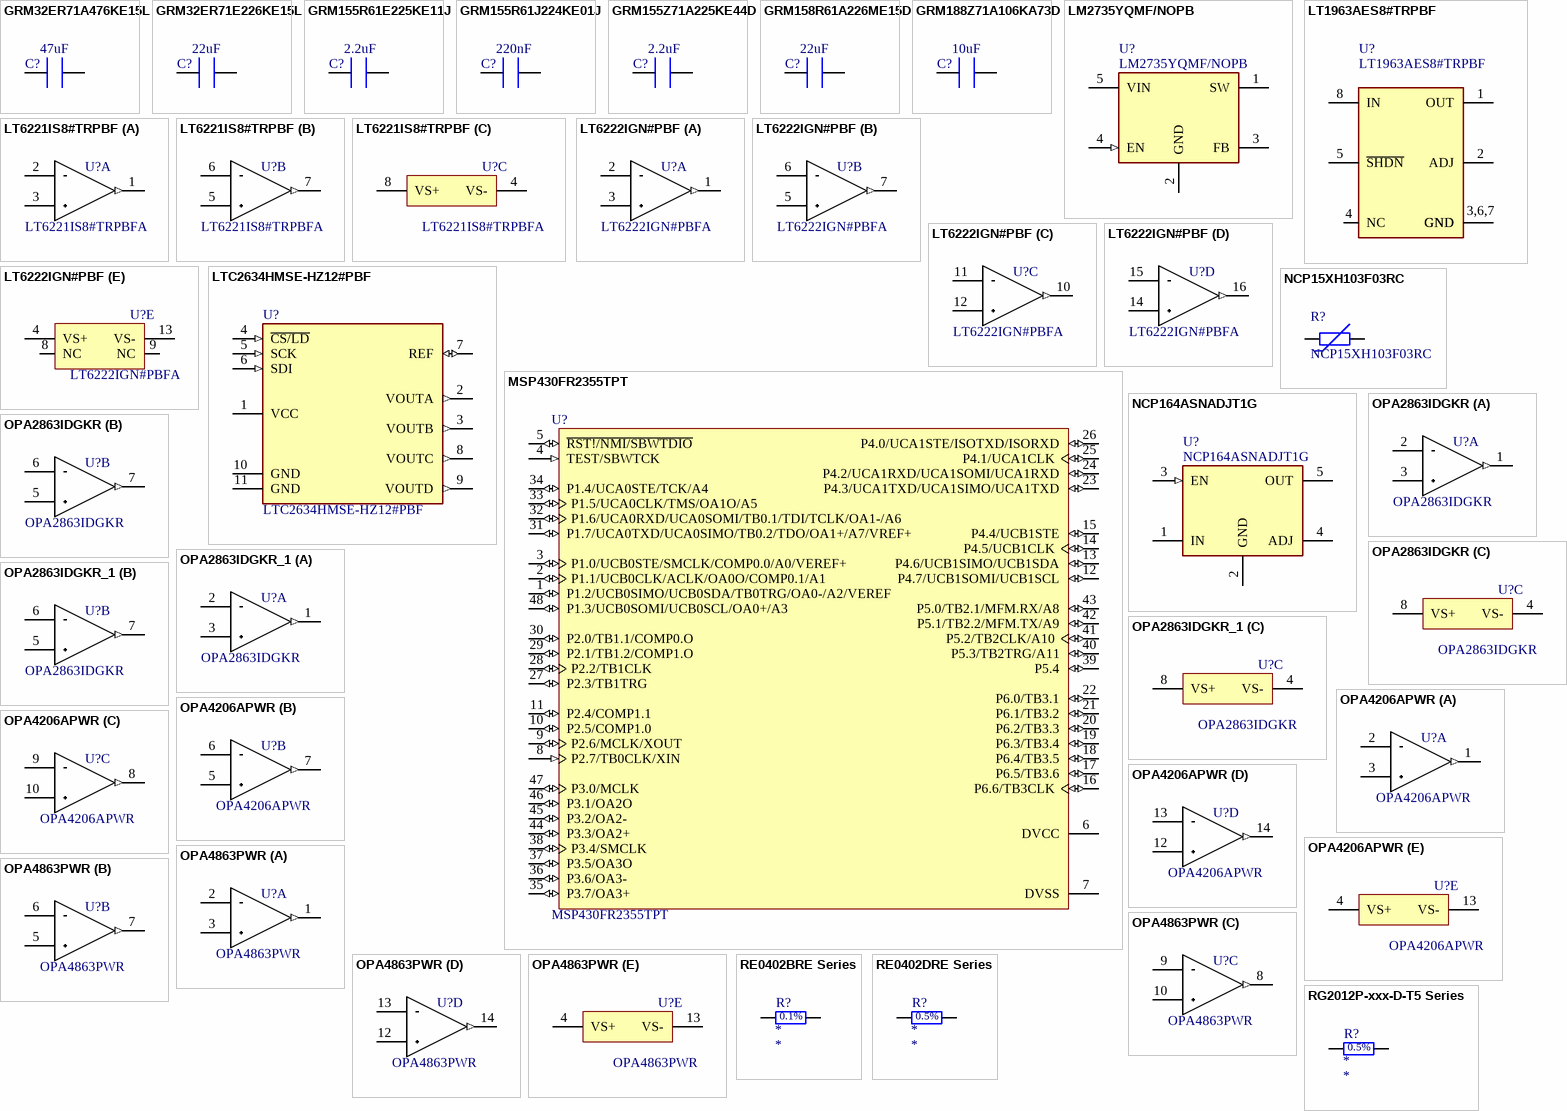
[diagram p2: symbols GRM32ER71A476KE15L to RG2012P-xxx-D-T5 Series]

## GRM32ER71A476KE15L
designator C?, comment 47uF
Passive - Capacitor, 1210, 47uF Max, X7R, 10V, ±10%, -55°C ~ 125°C, 1210 (3225 Metric). 37.9uF @ 5V, 18.8uF @ 10V; MF Part No.: GRM32ER71A476KE15L; APSS Standard Part: APSS Standard; Capacitance at Rated Voltage: 30%; Tolerance: ±10%; Temperature Coefficient: X7R; Rated Voltage: 10V; Temp Range: -55°C ~ 125°C; Package: 1210; Supplier 1: Digikey; Supplier 1 Part No.: 490-GRM188Z71A106KA73DCT-ND; Value: 47uF
footprint CAPACITOR_1210_3225M_270N (Capacitor, 1210 (3225 metric), 2.7mm high, nominal pads)
pins: 1, 2

## GRM32ER71E226KE15L
designator C?, comment 22uF
Passive - Capacitor, 1210, 22uF Max, X7R, 25V, ±10%, -55°C ~ 125°C, 1210 (3225 Metric). 15uF  @ 5V, 7.3uF @ 15V, 4.5uF @ 25V; MF Part No.: GRM32ER71E226KE15L; APSS Standard Part: APSS Standard; Tolerance: 5%; Capacitance at Rated Voltage: 20%; Temperature Coefficient: X7R; Rated Voltage: 25V; Temp Range: -55°C ~ 125°C; Package: 1210; Supplier 1: Digikey; Supplier 1 Part No.: 490-13981-1-ND; Value: 22uF
footprint CAPACITOR_1210_3225M_270N (Capacitor, 1210 (3225 metric), 2.7mm high, nominal pads)
pins: 1, 2

## GRM155R61E225KE11J
designator C?, comment 2.2uF
Passive - Capacitor, 0402, 2.2uF Max, X5R, 25V, ±10%, -55°C ~ 85°C, 0402 (1005 Metric). 1.02uF @ 5V, 0.35uF @ 15V, 0.215uF @ 25V; MF Part No.: GRM155R61E225KE11J; APSS Standard Part: APSS Standard; Tolerance: ±10%; Temperature Coefficient: X5R; Capacitance at Rated Voltage: 10%; Rated Voltage: 25V; Temp Range: -55°C ~ 85°C; Package: 0402; Supplier 1: Digikey; Supplier 1 Part No.: 490-10749-1-ND; Value: 2.2uF
footprint CAPACITOR_0402_1005M_55N (Capacitor, 0402 (1005 metric), 0.55mm height, nominal pads)
pins: 1, 2

## GRM155R61J224KE01J
designator C?, comment 220nF
Passive - Capacitor, 0402, 220nF Max, X5R, 63V, ±10%, -55°C ~ 85°C, 0402 (1005 Metric). 106nF @ 5V, 34nF @ 20V, 24nF @ 40V,28nF @ 63V; MF Part No.: GRM155R61J224KE01J; APSS Standard Part: APSS Standard; Tolerance: ±10%; Temperature Coefficient: X5R; Capacitance at Rated Voltage: 10%; Rated Voltage: 63V; Temp Range: -55°C ~ 85°C; Package: 0402; Supplier 1: Digikey; Supplier 1 Part No.: 490-GRM21BZ71A226ME15LCT-ND; Value: 220nF
footprint CAPACITOR_0402_1005M_55N (Capacitor, 0402 (1005 metric), 0.55mm height, nominal pads)
pins: 1, 2

## GRM155Z71A225KE44D
designator C?, comment 2.2uF
Passive - Capacitor, 0402, 2.2uF Max, X7R, 10V, ±10%, -55°C ~ 125°C, 0402 (1005 Metric). 1.07uF @ 5V, 0.56uF @ 10V; MF Part No.: GRM155Z71A225KE44D; APSS Standard Part: APSS Standard; Capacitance at Rated Voltage: 25%; Tolerance: ±10%; Temperature Coefficient: X7R; Rated Voltage: 10V; Temp Range: -55°C ~ 125°C; Package: 0402; Supplier 1: Digikey; Supplier 1 Part No.: 490-9969-1-ND; Value: 2.2uF
footprint CAPACITOR_0402_1005M_55N (Capacitor, 0402 (1005 metric), 0.55mm height, nominal pads)
pins: 1, 2

## GRM158R61A226ME15D
designator C?, comment 22uF
Passive - Capacitor, 0402, 22uF Max, X5R, 10V, ±20%, -55°C ~ 85°C, 0402 (1005 Metric). 3.3uF @ 5V, 1.5uF @ 10V; MF Part No.: GRM158R61A226ME15D; APSS Standard Part: APSS Standard; Capacitance at Rated Voltage: 15%; Tolerance: ±20%; Temperature Coefficient: X5R; Rated Voltage: 10V; Temp Range: -55°C ~ 85°C; Package: 0402; Supplier 1: Digikey; Supplier 1 Part No.: 490-5312-1-ND; Value: 22uF
footprint CAPACITOR_0402_1005M_55N (Capacitor, 0402 (1005 metric), 0.55mm height, nominal pads)
pins: 1, 2

## GRM188Z71A106KA73D
designator C?, comment 10uF
Passive - Capacitor, 0603, 10uF Max, X7R, 10V, ±10%, -55°C ~ 125°C, 0603 (1608 Metric). 3.8uF @ 5V, 1.9uF @ 10V; MF Part No.: GRM188Z71A106KA73D; APSS Standard Part: APSS Standard; Capacitance at Rated Voltage: 20%; Tolerance: ±10%; Temperature Coefficient: X7R; Rated Voltage: 10V; Temp Range: -55°C ~ 125°C; Package: 0603; Supplier 1: Digikey; Supplier 1 Part No.: 490-5313-1-ND; Value: 10uF
footprint CAPACITOR_0603_1608M_100N (Capacitor, 0603 (1608 metric), 1mm high, nominal pads)
pins: 1, 2

## LM2735YQMF/NOPB
designator U?
IC - Regulator, SEPIC, Boost, Buck 2.1A (Switch), 2.7V to 5.5V In, 3V to 24V Out, SOT23-5; Temp Range: -40°C ~ 125°C (TJ); MF Part No.: LM2735YQMF/NOPB; Package: SOT-23-5; Supplier 1: Digikey; Supplier 1 Part No.: LM2735YQMF/NOPBCT-ND; Rated Voltage: 5.5V
footprint SOT23-5N-1.45mm (SOT23, 5 pins, nominal pads, 1.45mm high)
pins: 1 SW, 2 GND (power), 3 FB, 4 EN (in), 5 VIN (power)

## LT1963AES8#TRPBF
designator U?
IC - Regulator, Linear, 1.5A, 2V to 20V In, 1.21V to 19V Out, SOIC-8; Temp Range: -40°C ~ 85°C (TA); MF Part No.: LT1963AES8#TRPBF; Package: SOIC-8; Supplier 1: Digikey; Supplier 1 Part No.: LT1963AES8#TRPBFCT-ND; Rated Voltage: 20V
footprint SOIC-8N-3.9mmBody-1.75mm (8-SOIC, 8 pins, 3.9mm body width, nominal pads, 1.75mm high)
pins: 1 OUT, 2 ADJ (power), 3 GND (power), 4 NC, 5 ~{SHDN} (power), 6 GND (power), 7 GND (power), 8 IN (power)
text: 3,6,7

## LT6221IS8#TRPBF
designator U?, comment LT6221IS8#TRPBFA
IC - Opamp, High Speed, 2-Channel, 60MHz GBWP, RRIO, 2.2V to 12.6V, -40 to 85, MSOP-8; APSS Standard Part: APSS Standard; Temp Range: -40°C ~ 85°C; Package: MSOP-8 0.65mm; MF Part No.: LT6221IS8#TRPBF; Rated Voltage: 12.6V; Supplier 1: Digikey; Supplier 1 Part No.: LT6221IS8#TRPBFCT-ND
footprint SOIC-8N-3.9mmBody-1.75mm (8-SOIC, 8 pins, 3.9mm body width, nominal pads, 1.75mm high)
part A pins: 1 OUT1 (out), 2 IN1-, 3 IN1+
part B pins: 5 IN2+, 6 IN2-, 7 OUT1 (out)
part C pins: 4 VS- (power), 8 VS+ (power)

## LT6222IGN#PBF
designator U?, comment LT6222IGN#PBFA
IC - Opamp, High Speed, 4-Channel, 60MHz GBWP, RRIO, 2.2V to 12.6V, -40 to 85, SSOP-16; APSS Standard Part: APSS Standard; Temp Range: -40°C ~ 85°C; Package: TSSOP-16; MF Part No.: LT6222IGN#PBF; Rated Voltage: 12.6V; Supplier 1: Digikey; Supplier 1 Part No.: LT6222IGN#PBF-ND
footprint SSOP-16N-3.9mmBody-1.75mm (SSOP, 16 pins, 3.9mm wide body, 1.75mm high)
part A pins: 1 OUT1 (out), 2 IN1-, 3 IN1+
part B pins: 5 IN2+, 6 IN2-, 7 OUT2 (out)
part C pins: 10 OUT3 (out), 11 IN3-, 12 IN3+
part D pins: 14 IN4+, 15 IN4-, 16 OUT4 (out)
part E pins: 4 VS+ (power), 8 NC, 9 NC, 13 VS- (power)

## LTC2634HMSE-HZ12#PBF
designator U?
IC - DAC, 4-Channel, 12-bit, 2.7V to 5.5V Supply; APSS Standard Part: APSS Standard; Temp Range: -40°C ~ 125°C; Rated Voltage: 5V; MF Part No.: LTC2634HMSE-HZ12#PBF; Package: MSOP-10 0.5mm; Supplier 1: Digikey; Supplier 1 Part No.: 505-LTC2634HMSE-HZ12#PBF-ND
footprint MSOP-11N-3mmBody-1.1mm (MSOP-10 with power pad, 3mm body width, 1.1mm high, nominal pads)
pins: 1 VCC (power), 2 VOUTA (out), 3 VOUTB (out), 4 ~{CS/LD} (in), 5 SCK (in), 6 SDI (in), 7 REF (io), 8 VOUTC (out), 9 VOUTD (out), 10 GND, 11 GND

## MSP430FR2355TPT
designator U?
IC - Microcontroller, 24MHz, 32KB FRAM, Op-Amps/PGAs, 12-bit DACs, 12-bit ADC, 48-LQFP, -40 to 105C; APSS Standard Part: APSS Standard; Temp Range: -40°C ~ 105°C; Rated Voltage: 3.6V; MF Part No.: MSP430FR2355TPT; Package: LQFP-48; Supplier 1: Digikey; Supplier 1 Part No.: 296-50260-ND
footprint LQFP_PT_48_N
pins: 1 P1.2/UCB0SIMO/UCB0SDA/TB0TRG/OA0-/A2/VEREF (io), 2 P1.1/UCB0CLK/ACLK/OA0O/COMP0.1/A1 (io), 3 P1.0/UCB0STE/SMCLK/COMP0.0/A0/VEREF+ (io), 4 TEST/SBWTCK (in), 5 ~{RST!/NMI/SBWTDIO} (io), 6 DVCC (power), 7 DVSS (power), 8 P2.7/TB0CLK/XIN (in), 9 P2.6/MCLK/XOUT (io), 10 P2.5/COMP1.0 (io), 11 P2.4/COMP1.1 (io), 12 P4.7/UCB1SOMI/UCB1SCL (io), 13 P4.6/UCB1SIMO/UCB1SDA (io), 14 P4.5/UCB1CLK (io), 15 P4.4/UCB1STE (io), 16 P6.6/TB3CLK (io), 17 P6.5/TB3.6 (io), 18 P6.4/TB3.5 (io), 19 P6.3/TB3.4 (io), 20 P6.2/TB3.3 (io), 21 P6.1/TB3.2 (io), 22 P6.0/TB3.1 (io), 23 P4.3/UCA1TXD/UCA1SIMO/UCA1TXD (io), 24 P4.2/UCA1RXD/UCA1SOMI/UCA1RXD (io), 25 P4.1/UCA1CLK (io), 26 P4.0/UCA1STE/ISOTXD/ISORXD (io), 27 P2.3/TB1TRG (io), 28 P2.2/TB1CLK (io), 29 P2.1/TB1.2/COMP1.O (io), 30 P2.0/TB1.1/COMP0.O (io), 31 P1.7/UCA0TXD/UCA0SIMO/TB0.2/TDO/OA1+/A7/VREF+ (io), 32 P1.6/UCA0RXD/UCA0SOMI/TB0.1/TDI/TCLK/OA1-/A6 (io), 33 P1.5/UCA0CLK/TMS/OA1O/A5 (io), 34 P1.4/UCA0STE/TCK/A4 (io), 35 P3.7/OA3+ (io), 36 P3.6/OA3- (io), 37 P3.5/OA3O (io), 38 P3.4/SMCLK (io), 39 P5.4 (io), 40 P5.3/TB2TRG/A11 (io), 41 P5.2/TB2CLK/A10 (io), 42 P5.1/TB2.2/MFM.TX/A9 (io), 43 P5.0/TB2.1/MFM.RX/A8 (io), 44 P3.3/OA2+ (io), 45 P3.2/OA2- (io), 46 P3.1/OA2O (io), 47 P3.0/MCLK (io), 48 P1.3/UCB0SOMI/UCB0SCL/OA0+/A3 (io)

## NCP15XH103F03RC
designator R?
Passive - Thermistor, NTC, 10K; APSS Standard Part: APSS Standard; Temp Range: -40°C ~ 125°C; Power: 1/10W; Value: 10k (nominal); Rated Voltage: 5V; Package: 0402; MF Part No.: NCP15XH103F03RC; Supplier 1: Digikey; Supplier 1 Part No.: 490-4801-1-ND
footprint RESISTOR_0402_1005M_50N (Resistor, 0402 (1005 metric), 0.5mm height, nominal pads)
pins: 1, 2

## NCP164ASNADJT1G
designator U?
IC - Regulator, Linear, 300 mA, 1.6V to 5.5V In, 1.3V to 5.2V Out, SOT23-5; Temp Range: -40°C ~ 85°C (TA); MF Part No.: NCP164ASNADJT1G; Package: SOT-23-5; Supplier 1: Digikey; Supplier 1 Part No.: 488-NCP164ASNADJT1GCT-ND; Rated Voltage: 5.5V
footprint SOT23-5N-1.45mm (SOT23, 5 pins, nominal pads, 1.45mm high)
pins: 1 IN, 2 GND (power), 3 EN (in), 4 ADJ, 5 OUT (power)

## OPA2863IDGKR
designator U?
IC - Opamp, Precision, 2-Channel, 3.6MHz GBWP, RRIO, 4.5V to 36V, -40 to 125, MSOP-8; Temp Range: -40°C ~ 125°C; Package: MSOP-8 0.65mm; MF Part No.: OPA2863IDGKR; Rated Voltage: 36V; Supplier 1: Digikey; Supplier 1 Part No.: 296-OPA2206ADGKRCT-ND
footprint SOIC-8N-3.9mmBody-1.75mm (8-SOIC, 8 pins, 3.9mm body width, nominal pads, 1.75mm high)
part A pins: 1 OUT1 (out), 2 IN1-, 3 IN1+
part B pins: 5 IN2+, 6 IN2-, 7 OUT1 (out)
part C pins: 4 VS- (power), 8 VS+ (power)

## OPA2863IDGKR_1
designator U?, comment OPA2863IDGKR
IC - Opamp, High Speed, 2-Channel, 50MHz GBWP, RRIO, 2.2V to 12.6V, -40 to 125, MSOP-8; Temp Range: -40°C ~ 125°C; Package: MSOP-8 0.65mm; MF Part No.: OPA2863IDGKR; Rated Voltage: 12.6V; Supplier 1: Digikey; Supplier 1 Part No.: 296-OPA2863IDGKRCT-ND
footprint SOIC-8N-3.9mmBody-1.75mm (8-SOIC, 8 pins, 3.9mm body width, nominal pads, 1.75mm high)
part A pins: 1 OUT1 (out), 2 IN1-, 3 IN1+
part B pins: 5 IN2+, 6 IN2-, 7 OUT1 (out)
part C pins: 4 VS- (power), 8 VS+ (power)

## OPA4206APWR
designator U?
IC - Opamp, Precision, 4-Channel, 3.6MHz GBWP, RRIO, 4.5V to 36V, -40 to 125, MSOP-8; Temp Range: -40°C ~ 125°C; Rated Voltage: 12.6V; Package: TSSOP-14; MF Part No.: OPA4206APWR; Supplier 1: Digikey; Supplier 1 Part No.: 296-OPA4206APWRCT-ND
footprint TSSOP-14N_4.4mmBody-1mm (TSSOP, 0.65mm pitch, 4.4mm body, 1mm high, nominal pads)
part A pins: 1 OUT1 (out), 2 IN1-, 3 IN1+
part B pins: 5 IN2+, 6 IN2-, 7 OUT2 (out)
part C pins: 8 OUT3 (out), 9 IN3-, 10 IN3+
part D pins: 12 IN4+, 13 IN4-, 14 OUT4 (out)
part E pins: 4 VS+ (power), 13 VS- (power)

## OPA4863PWR
designator U?
IC - Opamp, High Speed, 4-Channel, 50MHz GBWP, RRIO, 2.2V to 12.6V, -40 to 125, SSOP-16; Temp Range: -40°C ~ 125°C; Package: TSSOP-14; MF Part No.: OPA4863PWR; Rated Voltage: 12.6V; Supplier 1: Digikey; Supplier 1 Part No.: 296-OPA4863PWRCT-ND
footprint TSSOP-14N_4.4mmBody-1mm (TSSOP, 0.65mm pitch, 4.4mm body, 1mm high, nominal pads)
part A pins: 1 OUT1 (out), 2 IN1-, 3 IN1+
part B pins: 5 IN2+, 6 IN2-, 7 OUT2 (out)
part C pins: 8 OUT3 (out), 9 IN3-, 10 IN3+
part D pins: 12 IN4+, 13 IN4-, 14 OUT4 (out)
part E pins: 4 VS+ (power), 13 VS- (power)

## RE0402BRE Series
designator R?
Passive - Resistor Series, 0402, 0.1%, 10R - 1M, E24+E96, 0.063W, 1/16W, ±50ppm/°C, -55°C ~ 155°C, 0402 (1005 Metric); APSS Standard Part: APSS Standard; Value Range: 10 ~ 1M; Rated Voltage: 50V; Tolerance: 0.1%; Power: 1/16W; E Series: E24 + E96; Temp Range: -55°C ~ 155°C; Supplier 1: Digikey; Package: 0402; Temperature Coefficient: ±50ppm/°C; MF Part No.: *; Value: *
footprint RESISTOR_0402_1005M_37N (Resistor, 0402 (1005 metric), 0.37mm height, nominal pads)
pins: 1, 2

## RE0402DRE Series
designator R?
Passive - Resistor Series, 0402, 0.5%, 10R - 1M, E24+E96, 0.063W, 1/16W, ±50ppm/°C, -55°C ~ 155°C, 0402 (1005 Metric); APSS Standard Part: APSS Standard; Tolerance: 0.1%; Value Range: 10 ~ 1M; Rated Voltage: 50V; Power: 1/16W; E Series: E24 + E96; Temp Range: -55°C ~ 155°C; Supplier 1: Digikey; Package: 0402; Temperature Coefficient: ±50ppm/°C; MF Part No.: *; Value: *
footprint RESISTOR_0402_1005M_37N (Resistor, 0402 (1005 metric), 0.37mm height, nominal pads)
pins: 1, 2
text: 0.5%

## RG2012P-xxx-D-T5 Series
designator R?
Passive - Resistor Series, 0805, 0.5%, 10 - 1M, E24, 0.063W, 1/8W, ±25ppm/°C, -55°C ~ 155°C, 0805 (2012 Metric); APSS Standard Part: APSS Standard; Value Range: 10 ~ 1M; Rated Voltage: 150V; Tolerance: 0.5%; Power: 1/8W; E Series: E24; Temp Range: -55°C ~ 155°C; Supplier 1: Digikey; Package: 0805; Temperature Coefficient: ±25ppm/°C; MF Part No.: *; Value: *
footprint Resistor_0805_2012M-50N (Resistor, 0805 (2012 metric), nominal pads)
pins: 1, 2

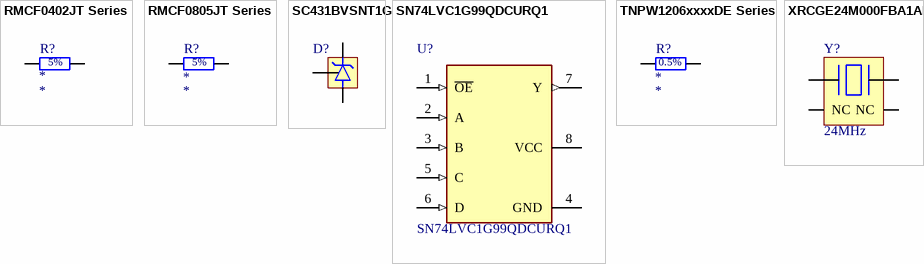
[diagram p3: symbols RMCF0402JT Series to XRCGE24M000FBA1AR0]

## RMCF0402JT Series
designator R?
Passive - Resistor Series, 0402, 5%, 1R - 20M, E24, 0.063W, 1/16W, ±100ppm/°C, -55°C ~ 155°C, 0402 (1005 Metric); APSS Standard Part: APSS Standard; Value Range: 1 ~ 20M; Rated Voltage: 50V; Tolerance: 5%; Power: 1/16W; E Series: E24; Temp Range: -55°C ~ 155°C; Supplier 1: Digikey; Package: 0402; Temperature Coefficient: ±100ppm/°C; MF Part No.: *; Value: *
footprint RESISTOR_0402_1005M_37N (Resistor, 0402 (1005 metric), 0.37mm height, nominal pads)
pins: 1, 2

## RMCF0805JT Series
designator R?
Passive - Resistor Series, 0805, 5%, 100m - 22M, E24, 0.063W, 1/16W, ±200ppm/°C, -55°C ~ 155°C, 0805 (2012 Metric); APSS Standard Part: APSS Standard; Power: 1/8W; Value Range: 100m ~ 22M; Rated Voltage: 150V; Tolerance: 5%; E Series: E24; Temp Range: -55°C ~ 155°C; Supplier 1: Digikey; Package: 0805; Temperature Coefficient: ±200ppm/°C; MF Part No.: *; Value: *
footprint Resistor_0805_2012M-50N (Resistor, 0805 (2012 metric), nominal pads)
pins: 1, 2

## SC431BVSNT1G
designator D?  (value not drawn)
IC - Precision Voltage Reference, 2.5V - 36V, 100mA, 0.5%, 50ppm/°C; APSS Standard Part: APSS Standard; Temp Range: -40°C ~ 125°C; MF Part No.: SC431BVSNT1G; Package: SOT23-3; Supplier 1: Digikey; Supplier 1 Part No.: 488-SC431BVSNT1GCT-ND; Rated Voltage: 36V; Temperature Coefficient: 50ppm/°C
footprint SOT23-3N-1.15mm (Footprint not found)
pins: 1 Ref, 2 A (power), 3 C (power)

## SN74LVC1G99QDCURQ1
designator U?
IC - Multifunction Logic Gate, AND, OR, NOT, MUX, etc.; Temp Range: -40°C ~ 125°C; Rated Voltage: 5.5V; Package: VSSOP-8 (0.5mm); MF Part No.: SN74LVC1G99QDCURQ1; Supplier 1: Digikey; Supplier 1 Part No.: 296-29053-1-ND
footprint VSSOP-8_2.3mmBody (VSSOP-8, 0.5mm pitch, 2.3mm body)
pins: 1 ~{OE} (in), 2 A (in), 3 B (in), 4 GND, 5 C (in), 6 D (in), 7 Y (out), 8 VCC

## TNPW1206xxxxDE Series
designator R?
Passive - Resistor Series, 1206, 0.5%, 1R - 2M, E24+E96, 0.52W, 1/2W, ±25ppm/°C, -55°C ~ 155°C, 0805 (3216 Metric); Value Range: 1R ~ 2M; Rated Voltage: 200V; Temperature Coefficient: ±200ppm/°C; Tolerance: 0.5%; Power: 0.52W; E Series: E24+E96; Temp Range: -55°C ~ 155°C; Supplier 1: Digikey; Package: 0805; MF Part No.: *; Value: *
footprint RESISTOR_1206_3216M_55N
pins: 1, 2

## XRCGE24M000FBA1AR0
designator Y?, comment 24MHz
Crystal - 24MHz, 4-SMD; MF Part No.: XRCGE24M000FBA1AR0; APSS Standard Part: APSS Standard; Load Capacitance: 6pF; Freq Tolerance: ±15ppm; Freq Stability: ±35ppm; Temp range: -40°C ~ 125°C; Supplier 1: Digikey; Supplier 1 Part No.: 490-XRCGE24M000FBA1AR0CT-ND; Value: 24MHz
footprint 4-SMD_2x1.6mm (4SMD, No Lead, 2.00mm x 1.60mm)
pins: 1, 2 NC, 3, 4 NC